# Altium footprint library DVT-Notch-Filter.PcbLib: 4 footprints
Each footprint in its own frame and in the unit in brackets; x right, y up, seen from the top. Pads: shape width x height; smd on the part's side, far side on the other; paste and mask are expansions set on the pad; w line width, h text height; cw(c..) or ccw(c..) is an arc to the next point about the centre after c.
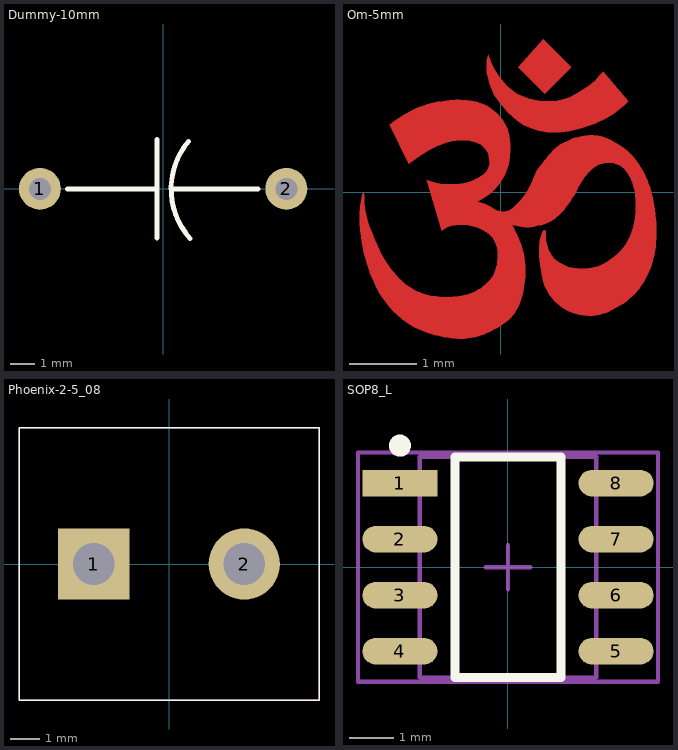
[diagram p0: the footprints below, top view; thin cyan lines are the x and y axes]

## Dummy-10mm [mm]
pads (2):
  round 1.7 hole 0.9: 1(-5,0) 2(5,0)
Top Overlay:
  lines w0.2: -3.875,0 -0.25,0 ; -0.25,-2 -0.25,2 ; 0.35,0 3.85,0 ; 1.026,1.922 ccw(c3.324,-0.006) 1.095,-2.014
3D body: height 1.87, standoff 0.12, extent -2.387,-0.876 2.413,0.88

## Om-5mm [mm]
Top Layer:
  region: 538 vertices and 0 holes, not listed, extent -2.085,-2.163 2.295,1.363
  region: 0.625,2.26 1.04,1.845 0.645,1.45 0.255,1.84
  region: -0.185,2.025 -0.21,1.935 -0.21,1.78 -0.165,1.59 -0.095,1.43 -0.01,1.31 0.09,1.185 0.18,1.105 0.27,1.03 0.34,0.985 0.445,0.94 0.555,0.905 0.68,0.885 0.77,0.88 0.88,0.885 1.01,0.9 1.185,0.94 1.385,1.01 1.555,1.09 1.665,1.16 1.82,1.285 1.88,1.34 1.51,1.78 1.455,1.715 1.39,1.645 1.29,1.565 1.21,1.51 1.125,1.46 1.005,1.395 0.89,1.36 0.8,1.34 0.72,1.34 0.62,1.34 0.525,1.355 0.42,1.38 0.32,1.415 0.235,1.455 0.165,1.5 0.095,1.56 0.04,1.62 -0.025,1.7 -0.085,1.79 -0.13,1.87 -0.155,1.945
Top Solder:
  drawing of 3 lines, arcs and shapes, not listed

## Phoenix-2-5_08 [mm]
pads (2):
  rect 2.4x2.4 hole 1.4: 1(-2.54,0)
  round 2.4 hole 1.4: 2(2.54,0)
Top Overlay:
  lines w0.05: -5.06,-4.6 -5.06,4.6 5.06,4.6 5.06,-4.6 -5.06,-4.6
Mechanical 1:
  lines w0.05: -5.06,-4.6 -5.06,4.6 5.06,4.6 5.06,-4.6 -5.06,-4.6
3D body "1715721.stp": height 14.2, standoff -3.5, extent -5.051,-5.19 5.851,4.61

## SOP8_L [mm]
pads (8):
  rect 1.7x0.6 smd: 1(-2.45,1.905)
  oval 1.7x0.6 smd: 2(-2.45,0.635) 3(-2.45,-0.635) 4(-2.45,-1.905) 5(2.45,-1.905) 6(2.45,-0.635) 7(2.45,0.635) 8(2.45,1.905)
Top Overlay:
  circle w0.25: c-2.45,2.755 r0.125
  lines w0.2: -1.2,-2.5 -1.2,2.5 1.2,2.5 1.2,-2.5 -1.2,-2.5
Mechanical 1:
  circle w0.1: c-2.5,2.75 r0.15
  lines w0.1: -2,-2.5 -2,2.5 2,2.5 2,-2.5 -2,-2.5
Mechanical 15:
  lines w0.1: -0.5,0 0.5,0 ; 0,-0.5 0,0.5 ; -3.4,-2.6 -3.4,2.6 3.4,2.6 3.4,-2.6 -3.4,-2.6
3D body "SOIC127P600-8.STEP": height 1.7, standoff 0, extent -3,-2.54 3,2.54